# EAGLE library part AD8276ARZ (library ADI-AD8276ARZ)
Unity-Gain Difference Amplifiers
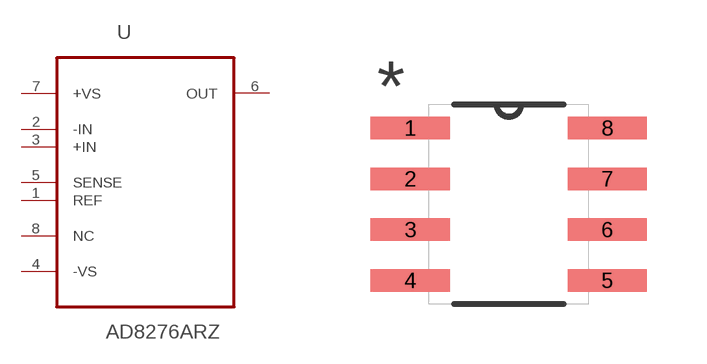
[diagram p0: symbol with the pads of SOIC127P600X175-8N; footprint SOIC127P600X175-8N]

Designator prefix U

## AD8276ARZ (MPN: AD8276ARZ; OC_FARNELL: 1827398; OC_NEWARK: 08R6717; PACKAGE: SOIC-8; SUPPLIER: Analog Devices)  [SOIC127P600X175-8N]
1  REF  in
2  -IN  in
3  +IN  in
4  -VS  pwr
5  SENSE  pas
6  OUT  out
7  +VS  pwr
8  NC  nc

## Footprint SOIC127P600X175-8N (pad centres in mm)
smd 1.981 x 0.559: 1 -2.464,1.905; 2 -2.464,0.635; 3 -2.464,-0.635; 4 -2.464,-1.905; 5 2.464,-1.905; 6 2.464,-0.635; 7 2.464,0.635; 8 2.464,1.905